# Altium footprint library LED Driver.PcbLib: 2 footprints
Each footprint in its own frame and in the unit in brackets; x right, y up, seen from the top. Pads: shape width x height; smd on the part's side, far side on the other; paste and mask are expansions set on the pad; w line width, h text height; cw(c..) or ccw(c..) is an arc to the next point about the centre after c.
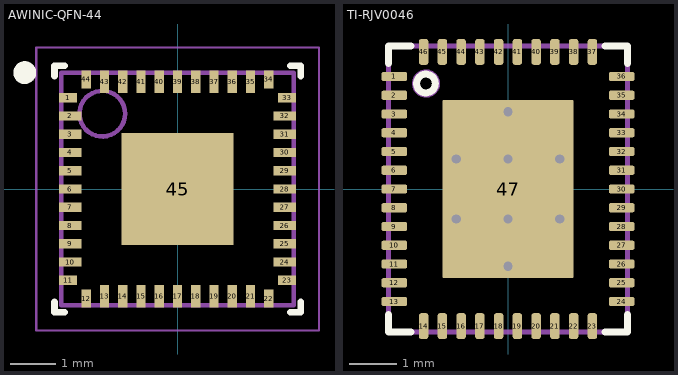
[diagram p0: the footprints below, top view; thin cyan lines are the x and y axes]

## AWINIC-QFN-44 [mm] "AWINIC(艾为) QFN-44 推荐焊盘"
height 0.8
pads (45):
  rect 0.4x0.2 smd mask+0.05: 1(-2.4,2) 11(-2.4,-2) 23(2.4,-2) 33(2.4,2)
  rect 0.5x0.2 smd mask+0.05: 2(-2.35,1.6) 3(-2.35,1.2) 4(-2.35,0.8) 5(-2.35,0.4) 6(-2.35,0) 7(-2.35,-0.4) 8(-2.35,-0.8) 9(-2.35,-1.2) 10(-2.35,-1.6) 24(2.35,-1.6) 25(2.35,-1.2) 26(2.35,-0.8) 27(2.35,-0.4) 28(2.35,0) 29(2.35,0.4) 30(2.35,0.8) 31(2.35,1.2) 32(2.35,1.6)
  rect 0.2x0.4 smd mask+0.05: 12(-2,-2.4) 22(2,-2.4) 34(2,2.4) 44(-2,2.4)
  rect 0.2x0.5 smd mask+0.05: 13(-1.6,-2.35) 14(-1.2,-2.35) 15(-0.8,-2.35) 16(-0.4,-2.35) 17(0,-2.35) 18(0.4,-2.35) 19(0.8,-2.35) 20(1.2,-2.35) 21(1.6,-2.35) 35(1.6,2.35) 36(1.2,2.35) 37(0.8,2.35) 38(0.4,2.35) 39(0,2.35) 40(-0.4,2.35) 41(-0.8,2.35) 42(-1.2,2.35) 43(-1.6,2.35)
  rect 2.45x2.45 smd mask+0.05: 45(0,0)
Top Overlay:
  circle w0.25: c-3.35,2.55 r0.125
  lines w0.15: -2.7,-2.475 -2.7,-2.7 -2.475,-2.7 ; -2.7,2.475 -2.7,2.7 -2.475,2.7 ; 2.475,-2.7 2.7,-2.7 2.7,-2.475 ; 2.475,2.7 2.7,2.7 2.7,2.475
Mechanical 13:
  circle w0.1: c-1.65,1.65 r0.5
  lines w0.1: -2.55,-2.55 -2.55,2.55 2.55,2.55 2.55,-2.55 -2.55,-2.55
Mechanical 15:
  lines w0.05: -3.1,-3.1 -3.1,3.1 3.1,3.1 3.1,-3.1 -3.1,-3.1
  lines w0.1: -0.5,0 0.5,0 ; 0,-0.5 0,0.5
3D body "AWINIC-QFN-44.step": height 0.8, standoff 0, extent -2.6,-2.6 2.6,2.6

## TI-RJV0046 [mm] "德州仪器的VQFN-46的推荐焊盘"
pads (61):
  rrect50% 0.55x0.2 smd mask+0.05: 1(-2.425,2.4) 2(-2.425,2) 3(-2.425,1.6) 4(-2.425,1.2) 5(-2.425,0.8) 6(-2.425,0.4) 7(-2.425,0) 8(-2.425,-0.4) 9(-2.425,-0.8) 10(-2.425,-1.2) 11(-2.425,-1.6) 12(-2.425,-2) 13(-2.425,-2.4) 24(2.425,-2.4) 25(2.425,-2) 26(2.425,-1.6) 27(2.425,-1.2) 28(2.425,-0.8) 29(2.425,-0.4) 30(2.425,0) 31(2.425,0.4) 32(2.425,0.8) 33(2.425,1.2) 34(2.425,1.6) 35(2.425,2) 36(2.425,2.4)
  rrect50% 0.2x0.55 smd mask+0.05: 14(-1.8,-2.925) 15(-1.4,-2.925) 16(-1,-2.925) 17(-0.6,-2.925) 18(-0.2,-2.925) 19(0.2,-2.925) 20(0.6,-2.925) 21(1,-2.925) 22(1.4,-2.925) 23(1.8,-2.925) 37(1.8,2.925) 38(1.4,2.925) 39(1,2.925) 40(0.6,2.925) 41(0.2,2.925) 42(-0.2,2.925) 43(-0.6,2.925) 44(-1,2.925) 45(-1.4,2.925) 46(-1.8,2.925)
  rrect2% 2.8x3.8 smd paste-2539.97 mask+0.05: 47(0,0)
  round 0.2 hole 0.2 paste-2539.97 mask+0: ""(-1.1,-0.64) ""(-1.1,0.64) ""(0,-1.65) ""(0,-0.64) ""(0,0.64) ""(0,1.65) ""(1.1,-0.64) ""(1.1,0.64)
  rrect9% 1.23x1.08 on Top Paste: ""(-0.715,-1.28) ""(-0.715,0) ""(-0.715,1.28) ""(0.715,-1.28) ""(0.715,0) ""(0.715,1.28)
Top Overlay:
  circle w0.15: c-1.75,2.25 r0.2
  lines w0.15: -2.55,-2.675 -2.55,-3.05 -2.075,-3.05 ; -2.55,2.675 -2.55,3.05 -2.075,3.05 ; 2.075,-3.05 2.55,-3.05 2.55,-2.675 ; 2.075,3.05 2.55,3.05 2.55,2.675
Mechanical 13:
  circle w0.1: c-1.75,2.25 r0.25
  lines w0.1: -2.55,-3.05 2.55,-3.05 2.55,3.05 -2.55,3.05 -2.55,-3.05
3D body "LP5036RJVR.stp": height 1, standoff 0, extent -2.5,-3 2.5,3